# EAGLE library part 613016216921 (library Eagle_BOARD-TO-BOARD_CONNECTORS (rev18b))
WR-PHD 2.54mm Dual S. Header Bottom Entry Large, 16 Pins=>Code : Con_BTB_SHD_2.54_2_613016216921 <http://katalog.we-online.de/media/images/eican/Con_BTB_SHD_2.54_2_6130xx216921_pf2.jpg> Details see: http://katalog.we-online.de/en/em/613_0xx_216_921 Created 2014-05-30, Karrer Zheng 2014 (C) Würth Elektronik
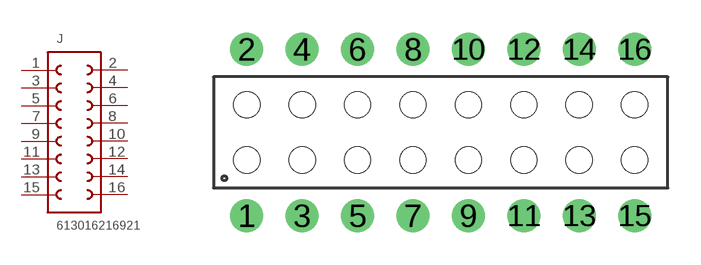
[diagram p168: symbol with the pads of 613016216921; footprint 613016216921]

Designator prefix J

## 613016216921  [613016216921]
1  1  pas
2  16  pas
3  2  pas
4  15  pas
5  3  pas
6  14  pas
7  4  pas
8  13  pas
9  5  pas
10  12  pas
11  6  pas
12  11  pas
13  7  pas
14  10  pas
15  8  pas
16  9  pas

## Footprint 613016216921 (pad centres in mm)
WR-PHD 2.54mm Dual S. Header Bottom Entry Large, 16 Pins
drill 1: 1 -8.89,-3.81; 2 -8.89,3.81; 3 -6.35,-3.81; 4 -6.35,3.81; 5 -3.81,-3.81; 6 -3.81,3.81; 7 -1.27,-3.81; 8 -1.27,3.81; 9 1.27,-3.81; 10 1.27,3.81; 11 3.81,-3.81; 12 3.81,3.81; 13 6.35,-3.81; 14 6.35,3.81; 15 8.89,-3.81; 16 8.89,3.81
hole 1.2 at -8.89,1.27
hole 1.2 at -6.35,1.27
hole 1.2 at -6.35,-1.27
hole 1.2 at -8.89,-1.27
hole 1.2 at -3.81,1.27
hole 1.2 at -3.81,-1.27
hole 1.2 at -1.27,-1.27
hole 1.2 at -1.27,1.27
hole 1.2 at 1.27,1.27
hole 1.2 at 1.27,-1.27
hole 1.2 at 3.81,-1.27
hole 1.2 at 3.81,1.27
hole 1.2 at 6.35,1.27
hole 1.2 at 8.89,1.27
hole 1.2 at 6.35,-1.27
hole 1.2 at 8.89,-1.27